# Altium schematic symbol library Fuse.SchLib: 1 symbol
Pins are listed as number, name and electrical type; pins without a type are passive.

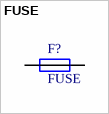
[diagram p0: symbol FUSE]

## FUSE
designator F?
footprint F0805 (Chip Resistor, Body 2.0x1.3mm, IPC Low Density)
footprint 0679-0500-01
footprint 5x20mm
pins: 1, 2